# EAGLE library part FFC6 (library monome-inc)
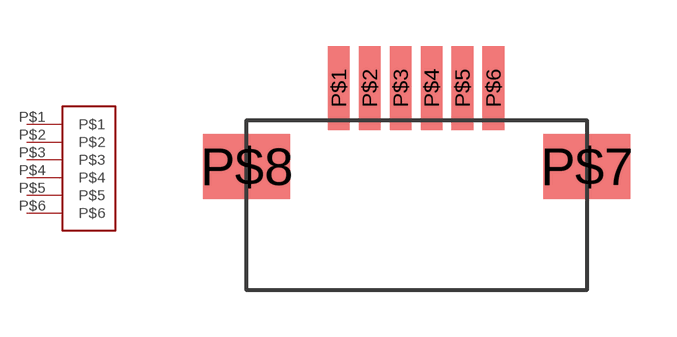
[diagram p0: symbol with the pads of FFC6; footprint FFC6]

Designator prefix -

## FFC6  [FFC6]
P$1  P$1
P$2  P$2
P$3  P$3
P$4  P$4
P$5  P$5
P$6  P$6

## Footprint FFC6 (pad centres in mm)
smd 0.7 x 2.7: P$1 -2.5,0.04; P$2 -1.5,0.04; P$3 -0.5,0.04; P$4 0.5,0.04; P$5 1.5,0.04; P$6 2.5,0.04
smd 2.8 x 2.1: P$7 5.52,-2.5; P$8 -5.48,-2.5